# Altium footprint library CONV_TPS63000DRCR.PcbLib: 1 footprints
Each footprint in its own frame and in the unit in brackets; x right, y up, seen from the top. Pads: shape width x height; smd on the part's side, far side on the other; paste and mask are expansions set on the pad; w line width, h text height; cw(c..) or ccw(c..) is an arc to the next point about the centre after c.
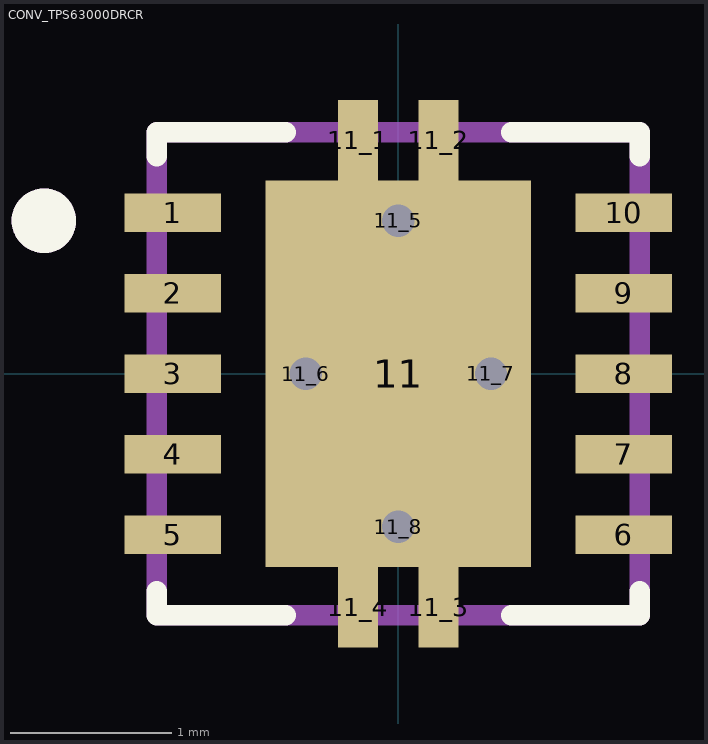
[diagram p0: the footprint, top view; thin cyan lines are the x and y axes]

## CONV_TPS63000DRCR [mm]
pads (19):
  rect 0.6x0.24 smd: 1(-1.4,1) 2(-1.4,0.5) 3(-1.4,0) 4(-1.4,-0.5) 5(-1.4,-1) 6(1.4,-1) 7(1.4,-0.5) 8(1.4,0) 9(1.4,0.5) 10(1.4,1)
  rect 1.65x2.4 smd paste-2: 11(0,0)
  rect 0.25x0.5 smd paste-1: 11_1(-0.25,1.45) 11_2(0.25,1.45) 11_3(0.25,-1.45) 11_4(-0.25,-1.45)
  round 0.4 hole 0.2 mask+0: 11_5(0,0.95) 11_6(-0.575,0) 11_7(0.575,0) 11_8(0,-0.95)
Top Overlay:
  circle w0.3: c-2.2,0.95 r0.05
  lines w0.127: -1.5,-1.35 -1.5,-1.5 -0.7,-1.5 ; -1.5,1.35 -1.5,1.5 -0.7,1.5 ; 0.7,-1.5 1.5,-1.5 1.5,-1.35 ; 0.7,1.5 1.5,1.5 1.5,1.35
Top Paste:
  region: -0.125,1.361 -0.375,1.361 -0.375,1.7 -0.125,1.7
  region: 0.375,1.362 0.125,1.362 0.125,1.7 0.375,1.7
  region: 0.375,-1.702 0.125,-1.702 0.125,-1.36 0.375,-1.36
  region: -0.125,-1.703 -0.376,-1.703 -0.376,-1.36 -0.125,-1.36
  region: 0.75,-1.161 -0.75,-1.161 -0.75,-0.1 0.75,-0.1
  region: 0.75,0.1 -0.751,0.1 -0.751,1.16 0.75,1.16
Mechanical 13:
  circle w0.3: c-2.2,0.95 r0.05
  lines w0.127: -1.5,-1.5 1.5,-1.5 1.5,1.5 -1.5,1.5 -1.5,-1.5
  text ".Designator" at 0.223,2.078 h0.6
3D body "TPS63000DRCR.step": height 1, standoff 0, extent -1.5,-1.5 1.5,1.5